# EAGLE library part UVQ-5/20-D24PB-C (library MRDT-2015-PowerBoard)
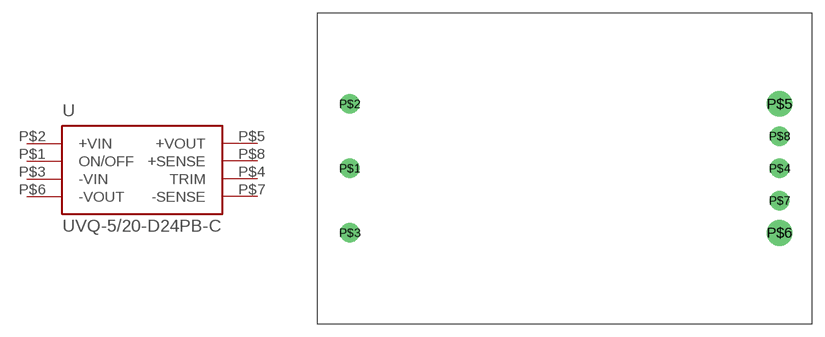
[diagram p5: symbol with the pads of MURATA_5V_DC-DC_CONVERTER; footprint MURATA_5V_DC-DC_CONVERTER]

Designator prefix -

## UVQ-5/20-D24PB-C  [MURATA_5V_DC-DC_CONVERTER]
P$1  ON/OFF
P$2  +VIN
P$3  -VIN
P$4  TRIM
P$5  +VOUT
P$6  -VOUT
P$7  -SENSE
P$8  +SENSE

## Footprint MURATA_5V_DC-DC_CONVERTER (pad centres in mm)
drill 1.524: P$1 -24.13,-0.635; P$2 -24.13,6.985; P$3 -24.13,-8.255; P$4 26.67,-0.635; P$7 26.67,-4.445; P$8 26.67,3.175
drill 2.032: P$5 26.67,6.985; P$6 26.67,-8.255